# Altium integrated library RS Components - Capacitors.IntLib: 3 symbols
Pins are listed as number, name and electrical type; pins without a type are passive.

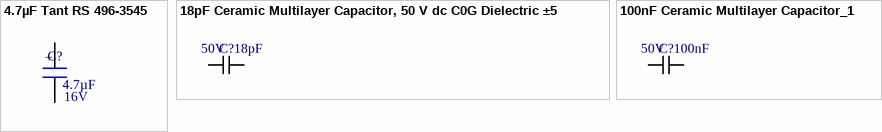
[diagram p0: symbols 4.7µF Tant RS 496-3545 to 100nF Ceramic Multilayer Capacitor_1]

## 4.7µF Tant RS 496-3545
designator C?, comment value 4.7µF  Voltage: 16V  (hidden comment: Capacitor SMT Tantalum)
Capacitor,tantalum,SMT,16V,4.7uF,10%,A-case; Part Originator: H Theron; RS Stock Nr.: 496-3545; Tolerance: 10%; Package: 3216-18; Publisher: DPSS; LatestRevisionDate: 28-April-2010; ComponentLink1Description: Supplier Website; ComponentLink1URL: http://za.rs-online.com/web/search/searchBrowseAction.html?method=getProduct&R=4963545; ComponentLink2Description: RS Data sheet; ComponentLink2URL: http://docs-europe.origin.electrocomponents.com/webdocs/04ed/0900766b804ed4cc.pdf
footprint CASE A - 3216X18 (Molded Capacitor, 2-Leads, Body 3.2x1.6mm, IPC Medium Density)
pins: 1, 2
text: +

## 18pF Ceramic Multilayer Capacitor, 50 V dc C0G Dielectric ±5% SMD
designator C?, comment Voltage: 50V  Capacitance: 18pF  (hidden comment: C0805C180J5GACTU)
18pF Ceramic Multilayer Capacitor, 50 V dc C0G Dielectric ±5% SMD; Manufacturer: Kemet; Creator: Ritesh Kanjee; Date Created: 18 February 2015; Package: 0805; RS Stock No.: 648-0935; Datasheet URL: http://za.rs-online.com/web/p/ceramic-multilayer-capacitors/6480935/?searchTerm=C0805C180J5GACTU&relevancy-data=636F3D3226696E3D4931384E4B6E6F776E41734D504E266C753D656E266D6D3D6D61746368616C6C7061727469616C26706D3D5E5B5C707B4C7D5C707B4E647D2D2C2F255C2E5D2B2426706F3D313326736E3D592673743D4D414E5F504152545F4E554D4245522677633D424F5448267573743D4330383035433138304A35474143545526
footprint CAPCP2012X09N (Chip Capacitor, 2-Leads, Body 2.00x1.25mm, IPC Medium Density)
pins: 1, 2

## 100nF Ceramic Multilayer Capacitor_1
designator C?  Voltage: 50V  Capacitance: 100nF  (hidden comment: 100nF Ceramic Multilayer Capacitor_1)
AVX 0805 Standard 100nF Ceramic Multilayer Capacitor, 50 V dc X7R Dielectric ±10% SMD; Creator: Ritesh Kanjee; Date Created: 18 February 2015; Package: 0805; Manufacturer: AVX; RS Stock No.: 464-6688; Datasheet URL: http://za.rs-online.com/web/p/ceramic-multilayer-capacitors/4646688/
footprint CAPCP2012X09N (Chip Capacitor, 2-Leads, Body 2.00x1.25mm, IPC Medium Density)
pins: 1, 2